# Altium schematic symbol library TC33X-2-103E.SchLib: 1 symbol
Pins are listed as number, name and electrical type; pins without a type are passive.

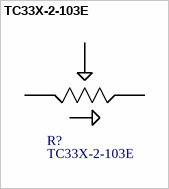
[diagram p0: symbol TC33X-2-103E]

## TC33X-2-103E
designator R?
Res Trimmer 10K Ohm 25% 0.1W_1/10W_ 1_Elec_/1_Mech_Turn _3 X 3.8mm_ Foot Print SMD Embossed T/R; MF: Bourns; Package: Bourns; SnapEDA_Link: https://www.snapeda.com/parts/TC33X-2-103E/Bourns/view-part/?ref=snap; Price: None; MP: TC33X-2-103E; Availability: Unavailable; Value: *
footprint *35WR
pins: 1, 2, 3